# Altium footprint library aPassive.PcbLib: 212 footprints (part 13 of 14)
Each footprint in its own frame and in the unit in brackets; x right, y up, seen from the top. Pads: shape width x height; smd on the part's side, far side on the other; paste and mask are expansions set on the pad; w line width, h text height; cw(c..) or ccw(c..) is an arc to the next point about the centre after c.
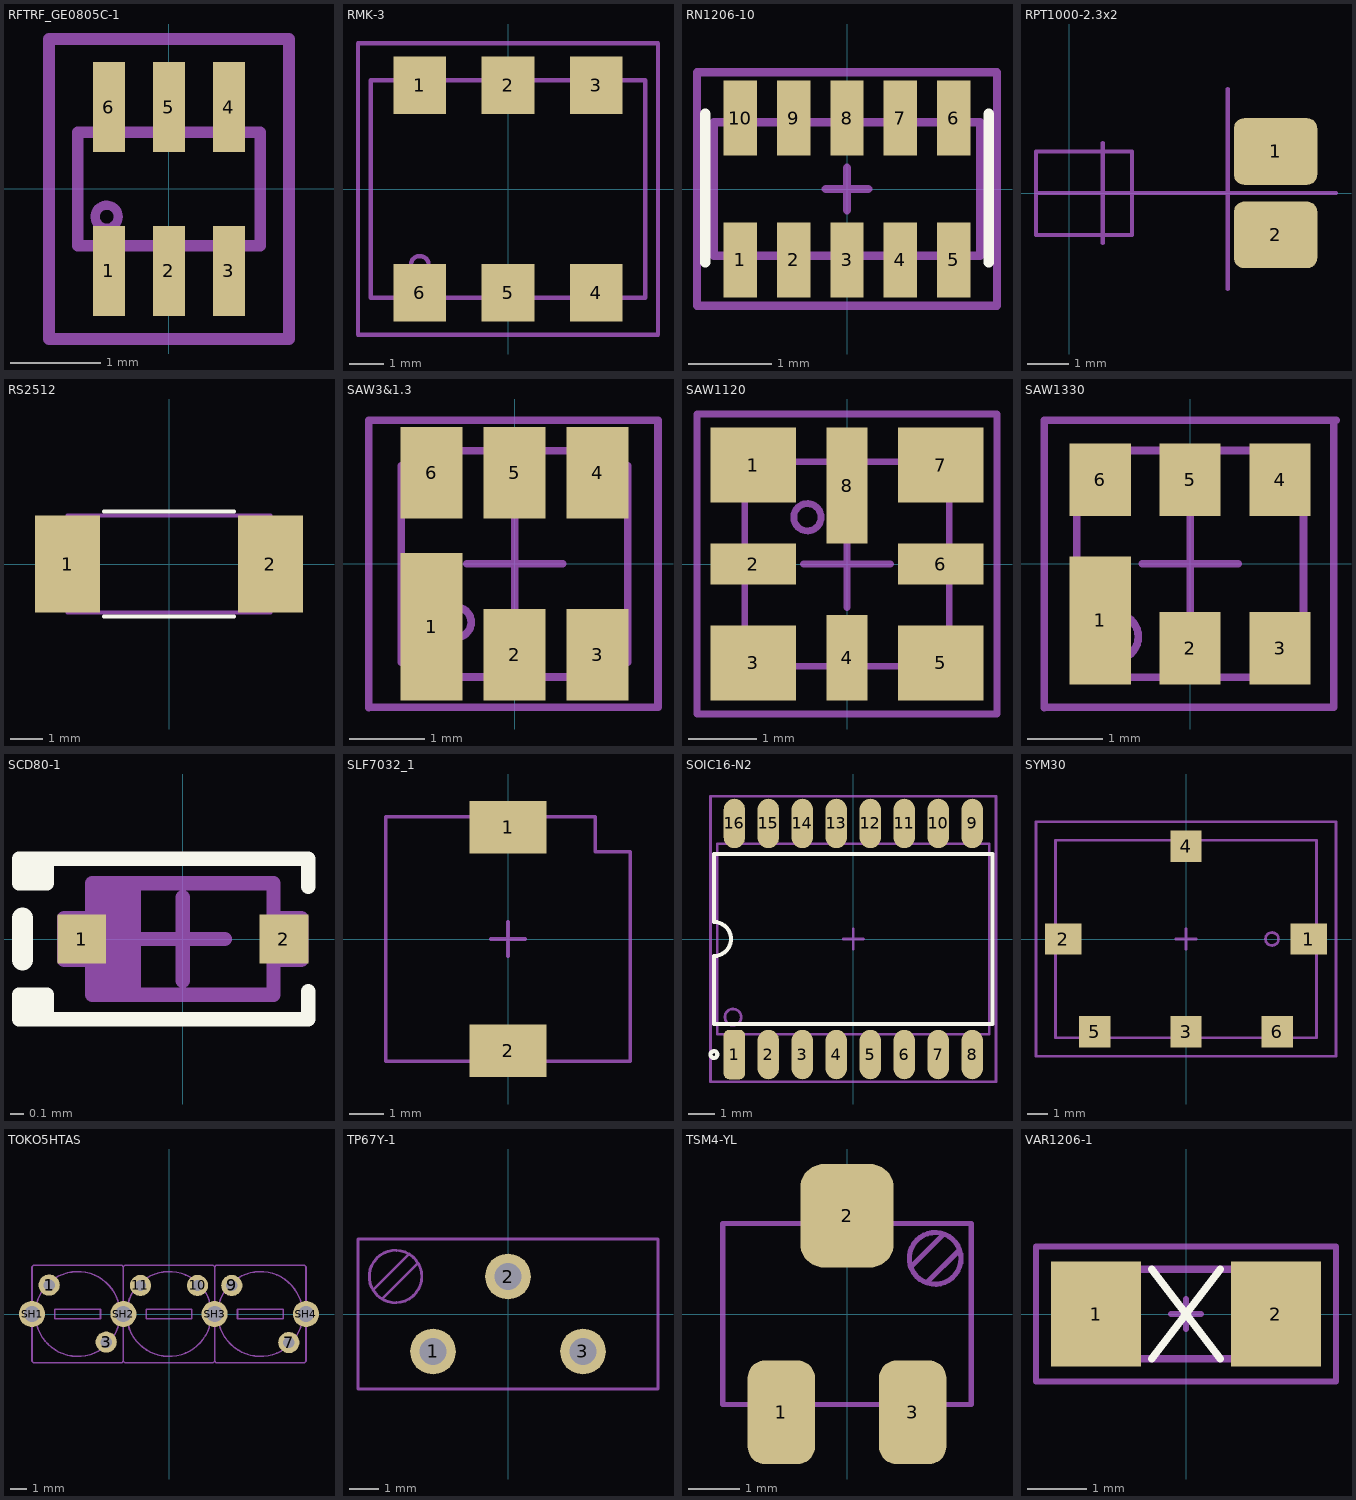
[diagram p12: the footprints below, top view; thin cyan lines are the x and y axes]

## RFTRF_GE0805C-1 [mil] "6pin"
height 0.84
pads (6):
  rect 14x39 smd: 1(-26,-35.5) 2(0,-35.5) 3(26,-35.5) 4(26,35.5) 5(0,35.5) 6(-26,35.5)
Mechanical 13:
  circle w4: c-27,-12 r5
  lines w5: -39.5,-24.5 39.5,-24.5 39.5,24.5 -39.5,24.5 -39.5,-24.5
Mechanical 15:
  lines w5: -52,-65 -52,65 52,65 52,-65 -52,-65
3D body: height 34, standoff 33, extent -32.41,-17.41 -21.59,-6.59
3D body: height 33, standoff 0, extent -39.5,-24.5 39.5,24.5

## RMK-3 [mil] "Frequency Multiplier 50Ohm Out 900-1200 MHz"
height 159.84
pads (6):
  rect 60x65 smd: 1(-100,117.5) 2(0,117.5) 3(100,117.5) 4(100,-117.5) 5(0,-117.5) 6(-100,-117.5)
Mechanical 13:
  circle w5: c-100,-86 r10
  lines w5: -155.51,-123.03 155.51,-123.03 155.51,123.03 -155.51,123.03 -155.51,-123.03
Mechanical 15:
  lines w5: -170,-165 170,-165 170,165 -170,165 -170,-165
3D body: height 161, standoff 160, extent -110.2,-96.2 -89.8,-75.8
3D body: height 160, standoff 0, extent -155.51,-123.03 155.51,123.03

## RN1206-10 [mm] "Resistor network 8x common R; 1206 10 pin R0.64mm"
height 0.5
pads (10):
  rect 0.4x0.9 smd: 1(-1.28,-0.85) 2(-0.64,-0.85) 3(0,-0.85) 4(0.64,-0.85) 5(1.28,-0.85) 6(1.28,0.85) 7(0.64,0.85) 8(0,0.85) 9(-0.64,0.85) 10(-1.28,0.85)
Top Overlay:
  lines w0.127: -1.7,-0.878 -1.7,0.9 ; 1.7,-0.878 1.7,0.9
Mechanical 13:
  lines w0.1: -1.6,-0.8 1.6,-0.8 1.6,0.8 -1.6,0.8 -1.6,-0.8
Mechanical 15:
  lines w0.1: -0.254,0 0.254,0 ; 0,-0.254 0,0.254
  lines w0.102: -1.8,-1.4 1.8,-1.4 1.8,1.4 -1.8,1.4 -1.8,-1.4
3D body: height 0.5, standoff 0, extent -1.6,-0.8 1.6,0.8
3D body: height 0.51, standoff 0.45, extent -1.6,-0.66 1.6,0.66
3D body: height 0.51, standoff 0, extent 1.095,0.66 1.445,0.835
3D body: height 0.51, standoff 0, extent 0.46,0.66 0.81,0.835
3D body: height 0.51, standoff 0, extent -0.175,0.66 0.175,0.835
3D body: height 0.51, standoff 0, extent -0.81,0.66 -0.46,0.835
3D body: height 0.51, standoff 0, extent -1.445,0.66 -1.095,0.835
3D body: height 0.51, standoff 0, extent 1.095,-0.835 1.445,-0.66
3D body: height 0.51, standoff 0, extent 0.46,-0.835 0.81,-0.66
3D body: height 0.51, standoff 0, extent -0.175,-0.835 0.175,-0.66
3D body: height 0.51, standoff 0, extent -0.81,-0.835 -0.46,-0.66
3D body: height 0.51, standoff 0, extent -1.445,-0.835 -1.095,-0.66

## RPT1000-2.3x2 [mm] "Temp. sensror PT1000 2,3x2mm"
height 1.3
pads (2):
  rrect30% 2x1.6 smd: 1(4.95,1) 2(4.95,-1)
Mechanical 14:
  lines w0.1: 0.8,-1 0.8,1 ; -0.8,-1 1.5,-1 1.5,1 -0.8,1 -0.8,-1
Mechanical 15:
  lines w0.1: -0.8,0 6.4,0 ; 0.8,-1.2 0.8,1.2 ; 3.8,-2.3 3.8,2.5
3D body: height 0.65, standoff 0, extent -0.8,-1 1.5,1
3D body: height 0.3, standoff -0.3, extent 0.8,-0.975 1.475,0.975
3D body: height 0, standoff -1.5, extent 2.401,-0.4 2.6,-0.2
3D body: height 0, standoff -1.5, extent 2.401,0.2 2.6,0.4
3D body: height 0, standoff -0.2, extent 1.5,-0.4 2.5,-0.2
3D body: height 0, standoff -0.2, extent 1.5,0.2 2.5,0.4
3D body: height -1.5, standoff -1.7, extent 2.433,-1.108 3.317,-0.225
3D body: height -1.5, standoff -1.7, extent 3.15,-1.1 5.35,-0.9
3D body: height -1.5, standoff -1.7, extent 3.15,0.901 5.35,1.1
3D body: height -1.5, standoff -1.7, extent 2.433,0.226 3.316,1.109

## RS2512 [mil]
height 19.68
pads (2):
  rect 80x120 smd: 1(-125,0) 2(125,0)
Top Overlay:
  lines w5: -80,-65 80,-65 ; -80,65 80,65
Mechanical 15:
  lines w5: -125,-60 125,-60 125,60 -125,60 -125,-60

## SAW3&1.3 [mm] "SAW filter 3x3 6pin; R1.27mm"
height 1.35
pads (6):
  rect 0.82x1.95 smd: 1(-1.1,-0.835)
  rect 0.82x1.21 smd: 2(0,-1.205) 3(1.1,-1.205) 4(1.1,1.205) 5(0,1.205) 6(-1.1,1.205)
Mechanical 13:
  circle w0.102: c-0.775,-0.775 r0.2
  lines w0.1: -1.5,-1.29 -1.5,1.29 ; -1.29,-1.5 -0.204,-1.5 ; -1.29,1.5 -0.2,1.5 ; 0.204,-1.5 1.292,-1.5 ; 0.204,1.5 1.29,1.5 ; 1.5,-1.292 1.5,1.29
  lines w0.102: -1.5,-1.3 cw(c-1.5,-1.5) -1.3,-1.5 ; -1.5,1.3 ccw(c-1.5,1.5) -1.3,1.5 ; -0.2,-1.5 cw(c0,-1.5) 0.2,-1.5 ; -0.2,1.5 ccw(c0,1.5) 0.2,1.5 ; 1.3,-1.5 cw(c1.5,-1.5) 1.5,-1.3 ; 1.3,1.5 ccw(c1.5,1.5) 1.5,1.3
Mechanical 15:
  lines w0.102: -1.93,-1.905 -1.93,1.9 1.9,1.9 1.9,-1.9 -1.9,-1.9 ; -0.635,0 0.635,0 ; 0,-0.635 0,0.635
3D body: height 1.35, standoff 1.1, extent -1.25,-1.25 1.25,1.25
3D body: height 1.1, standoff 0, extent -1.5,-1.5 1.5,1.5
3D body: height 1.1, standoff 0, extent -0.204,1.292 0.204,1.5
3D body: height 1.1, standoff 0, extent -0.204,-1.5 0.204,-1.292
3D body: height 1.1, standoff 0, extent -1.499,1.291 -1.291,1.499
3D body: height 1.1, standoff 0, extent -1.499,-1.499 -1.291,-1.291
3D body: height 1.1, standoff 0, extent 1.291,-1.499 1.499,-1.291
3D body: height 1.1, standoff 0, extent 1.291,1.291 1.499,1.499
3D body: height 1.37, standoff 1.35, extent -0.979,-0.979 -0.571,-0.571

## SAW1120 [mm] "SAW filter 8 pin 3MM; R1.27mm"
height 1
pads (8):
  rect 1.25x1.1 smd paste-0.5 mask+0.051: 1(-1.375,1.45) 3(-1.375,-1.45) 5(1.375,-1.45) 7(1.375,1.45)
  rect 1.25x0.6 smd paste-0.254 mask+0.051: 2(-1.375,0) 6(1.375,0)
  rect 0.6x1.25 smd paste-0.254 mask+0.051: 4(0,-1.375)
  rect 0.6x1.7 smd paste-0.5 mask+0.051: 8(0,1.15)
Top Paste:
  region: -1,-0.3 -1,0.3 -2,0.3 -2,-0.3
  region: 0.3,-1 -0.3,-1 -0.3,-2 0.3,-2
  region: -0.75,-1.25 -1.15,-1.25 -1.15,-0.9 -2,-0.9 -2,-2 -0.75,-2
  region: 1,0.3 1,-0.3 2,-0.3 2,0.3
  region: -0.3,2 0.3,2 0.3,0.725 -0.3,0.725
  region: 0.75,1.25 1.15,1.25 1.15,0.9 2,0.9 2,2 0.75,2
  region: 0.75,-1.25 1.15,-1.25 1.15,-0.9 2,-0.9 2,-2 0.75,-2
  region: -0.75,1.25 -1.15,1.25 -1.15,0.9 -2,0.9 -2,2 -0.75,2
Mechanical 13:
  circle w0.102: c-0.581,0.686 r0.2
  lines w0.1: -1.5,-1.3 -1.5,-0.2 ; -1.5,0.2 -1.5,1.3 ; -1.3,-1.5 -0.2,-1.5 ; -1.3,1.5 -0.2,1.5 ; 0.2,-1.5 1.3,-1.5 ; 0.2,1.5 1.3,1.5 ; 1.5,-1.3 1.5,-0.2 ; 1.5,0.2 1.5,1.3
  lines w0.102: -1.5,-1.3 cw(c-1.5,-1.5) -1.3,-1.5 ; -1.5,-0.2 ccw(c-1.5,0) -1.5,0.2 ; -1.5,1.3 ccw(c-1.5,1.5) -1.3,1.5 ; -0.2,-1.5 cw(c0,-1.5) 0.2,-1.5 ; -0.2,1.5 ccw(c0,1.5) 0.2,1.5 ; 1.3,-1.5 cw(c1.5,-1.5) 1.5,-1.3 ; 1.3,1.5 ccw(c1.5,1.5) 1.5,1.3 ; 1.5,-0.2 cw(c1.5,0) 1.5,0.2
Mechanical 15:
  lines w0.102: -0.635,0 0.635,0 ; 0,-0.635 0,0.635 ; -2.2,-2.2 2.2,-2.2 2.2,2.2 -2.2,2.2 -2.2,-2.2
3D body: height 1, standoff 0.8, extent -1.3,-1.3 1.3,1.3
3D body: height 0.8, standoff 0, extent -1.499,1.291 -1.291,1.499
3D body: height 0.8, standoff 0, extent -0.204,1.292 0.204,1.5
3D body: height 0.8, standoff 0, extent 1.292,-0.204 1.5,0.204
3D body: height 0.8, standoff 0, extent -0.204,-1.5 0.204,-1.292
3D body: height 0.8, standoff 0, extent -1.5,-0.204 -1.292,0.204
3D body: height 0.8, standoff 0, extent -1.5,-1.5 1.5,1.5
3D body: height 0.8, standoff 0, extent -1.499,-1.499 -1.291,-1.291
3D body: height 0.8, standoff 0, extent 1.291,-1.499 1.499,-1.291
3D body: height 0.8, standoff 0, extent 1.291,1.291 1.499,1.499
3D body: height 1.01, standoff 1, extent -0.791,0.479 -0.377,0.893

## SAW1330 [mm] "SAW filter 8 pin 5MM + 6 PIN 3.8MM; R1.27mm"
height 1.35
pads (6):
  rect 0.81x1.7 smd: 1(-1.19,-0.75)
  rect 0.81x0.96 smd: 2(0,-1.115) 3(1.19,-1.115) 4(1.19,1.115) 5(0,1.115) 6(-1.19,1.115)
Mechanical 13:
  circle w0.102: c-0.991,-0.965 r0.305
  lines w0.1: -1.5,-1.5 -1.5,1.5 1.5,1.5 1.5,-1.5 -1.5,-1.5
Mechanical 15:
  lines w0.102: -1.93,-1.905 -1.93,1.9 1.93,1.9 ; -1.9,-1.9 1.9,-1.9 1.9,1.9 ; -0.635,0 0.635,0 ; 0,-0.635 0,0.635
3D body: height 1.35, standoff 0, extent -1.473,-1.448 1.448,1.448

## SCD80-1 [mm] "SCD80 diode"
height 0.7
pads (2):
  rect 0.35x0.35 smd mask+0.025: 1(-0.725,0) 2(0.725,0)
Top Overlay:
  lines w0.102: -1.1,-0.575 0.9,-0.575 ; -1.1,0.575 0.9,0.575 ; -1.075,-0.4 -1.075,-0.575 -0.975,-0.575 -0.975,-0.4 -1.175,-0.4 -1.175,-0.575 -0.85,-0.575 ; -1.075,0.4 -1.075,0.575 -0.975,0.575 -0.975,0.4 -1.175,0.4 -1.175,0.575 -0.85,0.575 ; 0.9,-0.55 0.9,-0.375 ; 0.9,0.375 0.9,0.55
  lines w0.15: -1.15,-0.15 -1.15,0.15
Top Solder:
  pour cut-out: 0.473,-0.252 0.977,-0.252 0.977,0.251 0.473,0.251 0.473,0 0.524,0 0.524,0.201 0.926,0.201 0.926,-0.201 0.524,-0.201 0.524,0 0.473,0
  pour cut-out: -0.473,-0.252 -0.977,-0.252 -0.977,0.251 -0.473,0.251 -0.473,0 -0.524,0 -0.524,0.201 -0.926,0.201 -0.926,-0.201 -0.524,-0.201 -0.524,0 -0.473,0
Mechanical 13:
  lines w0.102: -0.65,-0.15 -0.85,-0.15 -0.85,0.15 -0.65,0.15 ; -0.55,-0.4 -0.55,0.4 ; -0.45,-0.4 -0.45,0.4 ; -0.35,-0.4 -0.35,0.4 ; 0.65,-0.15 0.85,-0.15 0.85,0.15 0.65,0.15 ; -0.65,-0.4 0.65,-0.4 0.65,0.4 -0.65,0.4 -0.65,0 -0.65,-0.4
Mechanical 15:
  lines w0.102: -0.3,0 0.3,0 ; 0,-0.3 0,0.3
3D body: height 0.13, standoff 0, extent -0.85,-0.15 -0.65,0.15
3D body: height 0.71, standoff 0.7, extent -0.65,-0.4 -0.35,0.4
3D body: height 0.7, standoff 0, extent -0.65,-0.4 0.65,0.4
3D body: height 0.13, standoff 0, extent 0.65,-0.15 0.85,0.15

## SLF7032_1 [mm] "SMD Inductor for power line"
height 3.2
pads (2):
  rect 2.2x1.5 smd: 1(0,3.2) 2(0,-3.2)
Mechanical 13:
  lines w0.102: -3.5,-3.5 -3.5,3.5 2.5,3.5 2.5,2.5 3.5,2.5 3.5,-3.5 -3.5,-3.5
Mechanical 15:
  lines w0.102: -0.5,0 0.5,0 ; 0,-0.5 0,0.5
3D body: height 0.1, standoff 0, extent -1.1,2.425 1.1,3.5
3D body: height 0.1, standoff 0, extent -1.1,-3.5 1.1,-2.425
3D body: height 3, standoff 0.1, extent -3.5,-3.5 3.5,3.5
3D body: height 3.19, standoff 3, extent -3.511,-3.511 3.511,3.511
3D body: height 3.2, standoff 3.19, extent -1.211,1.4 1.206,2.111

## SOIC16-N2 [mm] "Small IC 16 pin transformer"
height 5.08
pads (16):
  rrect50% 0.8x1.85 smd: 1(-4.445,-4.318)
  oval 0.8x1.85 smd: 2(-3.175,-4.318) 3(-1.905,-4.318) 4(-0.635,-4.318) 5(0.635,-4.318) 6(1.905,-4.318) 7(3.175,-4.318) 8(4.445,-4.318) 9(4.445,4.318) 10(3.175,4.318) 11(1.905,4.318) 12(0.635,4.318) 13(-0.635,4.318) 14(-1.905,4.318) 15(-3.175,4.318) 16(-4.445,4.318)
Top Overlay:
  circle w0.15: c-5.207,-4.318 r0.127
  lines w0.15: 5.182,-3.175 -5.207,-3.175 -5.207,-0.635 ccw(c-5.207,0) -5.207,0.635 -5.207,3.175 5.207,3.175 5.207,-3.175
Mechanical 13:
  circle w0.102: c-4.496,-2.921 r0.305
  lines w0.102: -5.08,-3.556 -5.08,3.556 5.08,3.556 5.08,-3.556 -5.08,-3.556
Mechanical 15:
  lines w0.102: -0.381,0 0.381,0 ; 0,-0.381 0,0.381 ; -5.334,-5.334 -5.334,5.334 5.334,5.334 5.334,-5.334 -5.334,-5.334
3D body: height 5.08, standoff 0, extent -5.08,-3.556 5.08,3.556

## SYM30 [mil]
pads (6):
  rect 70x60 smd: 1(235,0) 2(-235,0)
  rect 60x60 smd: 3(0,-178) 4(0,178) 5(-175,-178) 6(175,-178)
Mechanical 13:
  circle w5: c164.72,0 r12.45
  lines w5: -250,-188.98 250,-188.98 250,188.98 -250,188.98 -250,-188.98
Mechanical 15:
  lines w5: -20,0 20,0 ; 0,-20 0,20 ; -287.4,-224.41 287.4,-224.41 287.4,224.41 -287.4,224.41 -287.4,-224.41
3D body: height 231, standoff 230, extent 151.75,-13.25 177.4,13.24
3D body: height 230, standoff 0, extent -250,-188.98 250,188.98

## TOKO5HTAS [mm] "Filter 5HT AS THT"
height 8.3
pads (10):
  round 1.3 hole 0.7: 1(-7.35,1.775) 3(-3.85,-1.725) 7(7.35,-1.75) 9(3.85,1.75) 10(1.75,1.75) 11(-1.75,1.75)
  round 1.6 hole 1: SH1(-8.4,0) SH2(-2.8,0) SH3(2.8,0) SH4(8.4,0)
Mechanical 13:
  circle w0.1: c0,0 r2.6
  circle w0.1: c5.6,0 r2.6
  circle w0.1: c-5.6,0 r2.6
  lines w0.1: -2.8,-2.9 -2.7,-3 2.7,-3 2.8,-2.9 ; -2.8,-2.9 -2.8,2.9 ; -2.8,-2.9 -2.8,2.9 ; -2.8,-2.9 -2.9,-3 -8.3,-3 -8.4,-2.9 -8.4,2.9 -8.3,3 -2.9,3 -2.8,2.9 ; -2.8,2.9 -2.7,3 2.7,3 2.8,2.9 ; 2.8,-2.9 2.8,2.9 ; 2.8,-2.9 2.8,2.9 ; 2.8,-2.9 2.9,-3 8.3,-3 8.4,-2.9 8.4,2.9 8.3,3 2.9,3 2.8,2.9 ; -7,-0.3 -7,0.3 -4.2,0.3 -4.2,-0.3 -7,-0.3 ; -1.4,-0.3 1.4,-0.3 1.4,0.3 -1.4,0.3 -1.4,-0.3 ; 4.2,-0.3 4.2,0.3 7,0.3 7,-0.3 4.2,-0.3
3D body: height 8.3, standoff 0, extent -8.4,-3 8.4,3

## TP67Y-1 [mm] "Trimmer potentiometer vertical 10X5X10mm W"
height 10.5
pads (3):
  round 1.55 hole 0.9: 1(-2.54,-1.27) 2(0,1.27) 3(2.54,-1.27)
Mechanical 13:
  circle w0.1: c-3.81,1.27 r0.889
  lines w0.102: -4.572,0.813 -3.353,2.032 ; -4.267,0.508 -3.048,1.727 ; -5.08,-2.54 -5.08,2.54 5.08,2.54 5.08,-2.54 -5.08,-2.54
3D body: height 12, standoff 10.4, extent -4.708,0.367 -2.913,2.158
3D body: height 10.4, standoff 0, extent -5.08,-2.54 5.08,2.54

## TSM4-YL [mm] "Trimmer potentiometer vertical 4.8X3.5X5.1mm"
height 5.1
pads (3):
  rrect50% 1.3x2 smd: 1(-1.27,-1.9) 3(1.27,-1.9)
  rrect50% 1.8x2 smd: 2(0,1.9)
Mechanical 13:
  circle w0.1: c1.705,1.075 r0.5
  lines w0.102: 1.233,0.907 1.868,1.542 ; 1.542,0.608 2.172,1.238 ; -2.4,-1.75 -2.4,1.75 2.4,1.75 2.4,-1.75 -2.4,-1.75
3D body: height 0.15, standoff 0, extent 0.87,-2.4 1.67,-1.3
3D body: height 0.15, standoff 0, extent -1.67,-2.4 -0.87,-1.3
3D body: height 0.15, standoff 0, extent -0.4,1.3 0.4,2.4
3D body: height 5.2, standoff 4.6, extent 1.487,0.565 2.21,1.275
3D body: height 5.2, standoff 4.6, extent 1.19,0.875 1.913,1.585
3D body: height 5.1, standoff 0.1, extent -2.4,-1.75 2.4,1.75
3D body: height 4.6, standoff 0.1, extent 1.19,0.565 2.21,1.585

## VAR1206-1 [mil] "Chip varistor 1206"
height 61.02
pads (2):
  rect 60x70 smd: 1(-60,0) 2(60,0)
Top Overlay:
  lines w5: -22.99,-30 22.99,30 ; -22.99,30 22.99,-30
Mechanical 13:
  lines w5: -60,-30 60,-30 60,30 -60,30 -60,-30
Mechanical 15:
  lines w3.94: -10,0 10,0 ; 0,-10 0,10 ; -100,-45 100,-45 100,45 -100,45 -100,-45
3D body: height 47.24, standoff 0.39, extent -60,-30 60,30
3D body: height 47.64, standoff 0, extent -39.37,-30.32 39.37,30.32